# Altium footprint library QFP-64_14x14x08P.PcbLib: 1 footprints
Each footprint in its own frame and in the unit in brackets; x right, y up, seen from the top. Pads: shape width x height; smd on the part's side, far side on the other; paste and mask are expansions set on the pad; w line width, h text height; cw(c..) or ccw(c..) is an arc to the next point about the centre after c.
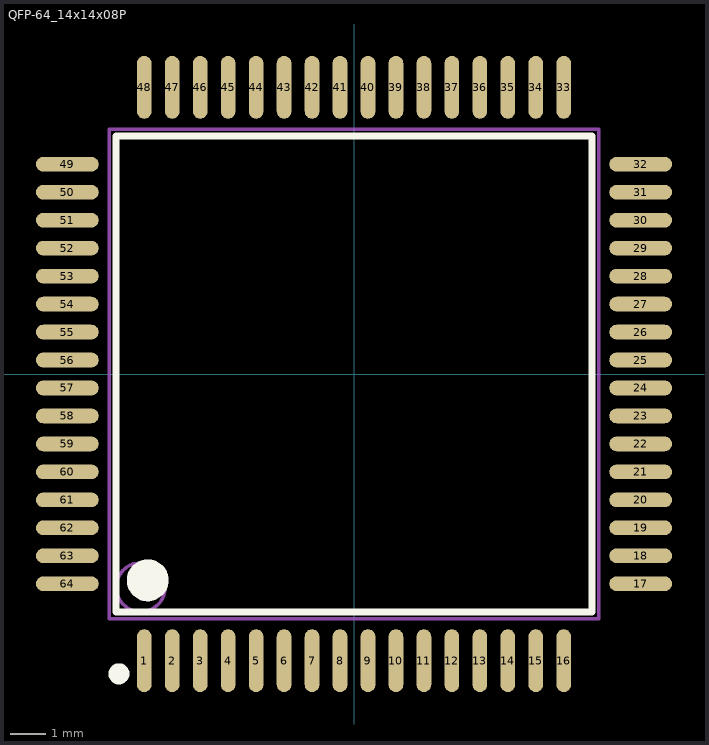
[diagram p0: the footprint, top view; thin cyan lines are the x and y axes]

## QFP-64_14x14x08P [mm]
pads (64):
  oval 0.42x1.8 smd: 1(-6,-8.2) 2(-5.2,-8.2) 3(-4.4,-8.2) 4(-3.6,-8.2) 5(-2.8,-8.2) 6(-2,-8.2) 7(-1.2,-8.2) 8(-0.4,-8.2) 9(0.4,-8.2) 10(1.2,-8.2) 11(2,-8.2) 12(2.8,-8.2) 13(3.6,-8.2) 14(4.4,-8.2) 15(5.2,-8.2) 16(6,-8.2) 33(6,8.2) 34(5.2,8.2) 35(4.4,8.2) 36(3.6,8.2) 37(2.8,8.2) 38(2,8.2) 39(1.2,8.2) 40(0.4,8.2) 41(-0.4,8.2) 42(-1.2,8.2) 43(-2,8.2) 44(-2.8,8.2) 45(-3.6,8.2) 46(-4.4,8.2) 47(-5.2,8.2) 48(-6,8.2)
  oval 1.8x0.42 smd: 17(8.2,-6) 18(8.2,-5.2) 19(8.2,-4.4) 20(8.2,-3.6) 21(8.2,-2.8) 22(8.2,-2) 23(8.2,-1.2) 24(8.2,-0.4) 25(8.2,0.4) 26(8.2,1.2) 27(8.2,2) 28(8.2,2.8) 29(8.2,3.6) 30(8.2,4.4) 31(8.2,5.2) 32(8.2,6) 49(-8.2,6) 50(-8.2,5.2) 51(-8.2,4.4) 52(-8.2,3.6) 53(-8.2,2.8) 54(-8.2,2) 55(-8.2,1.2) 56(-8.2,0.4) 57(-8.2,-0.4) 58(-8.2,-1.2) 59(-8.2,-2) 60(-8.2,-2.8) 61(-8.2,-3.6) 62(-8.2,-4.4) 63(-8.2,-5.2) 64(-8.2,-6)
Top Overlay:
  circle w0.3: c-6.725,-8.575 r0.15
  circle w0.6: c-5.9,-5.9 r0.3
  lines w0.2: -6.8,-6.8 -6.8,6.8 6.8,6.8 6.8,-6.8 -6.8,-6.8
Mechanical 13:
  circle w0.1: c-6.1,-6.1 r0.7
  lines w0.1: -7,-7 -7,7 7,7 7,-7 -7,-7